# Altium schematic symbol library LTC5576IUFPBF.SchLib: 1 symbol
Pins are listed as number, name and electrical type; pins without a type are passive.

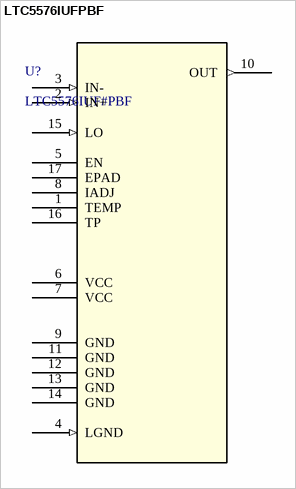
[diagram p0: symbol LTC5576IUFPBF]

## LTC5576IUFPBF
designator U?, comment LTC5576IUF#PBF
3GHz to 8GHz High Linearity Active Upconverting Mixer; Manufacturer_Name: Analog Devices Inc; Copyright: Copyright (C) 2026 Ultra Librarian. All rights reserved.; Manufacturer_Part_Number: LTC5576IUF#PBF; Datasheet: https://www.analog.com/media/en/technical-documentation/data-sheets/5576fa.pdf; RefDes: RefDes; Type: Type
footprint QFN-16_UF_LIT
pins: 1 TEMP, 2 IN+ (in), 3 IN- (in), 4 LGND (in), 5 EN, 6 VCC (power), 7 VCC (power), 8 IADJ, 9 GND (power), 10 OUT (out), 11 GND (power), 12 GND (power), 13 GND (power), 14 GND (power), 15 LO (in), 16 TP, 17 EPAD